# Altium footprint library HEV_PcbLib.PcbLib: 7 footprints
Each footprint in its own frame and in the unit in brackets; x right, y up, seen from the top. Pads: shape width x height; smd on the part's side, far side on the other; paste and mask are expansions set on the pad; w line width, h text height; cw(c..) or ccw(c..) is an arc to the next point about the centre after c.
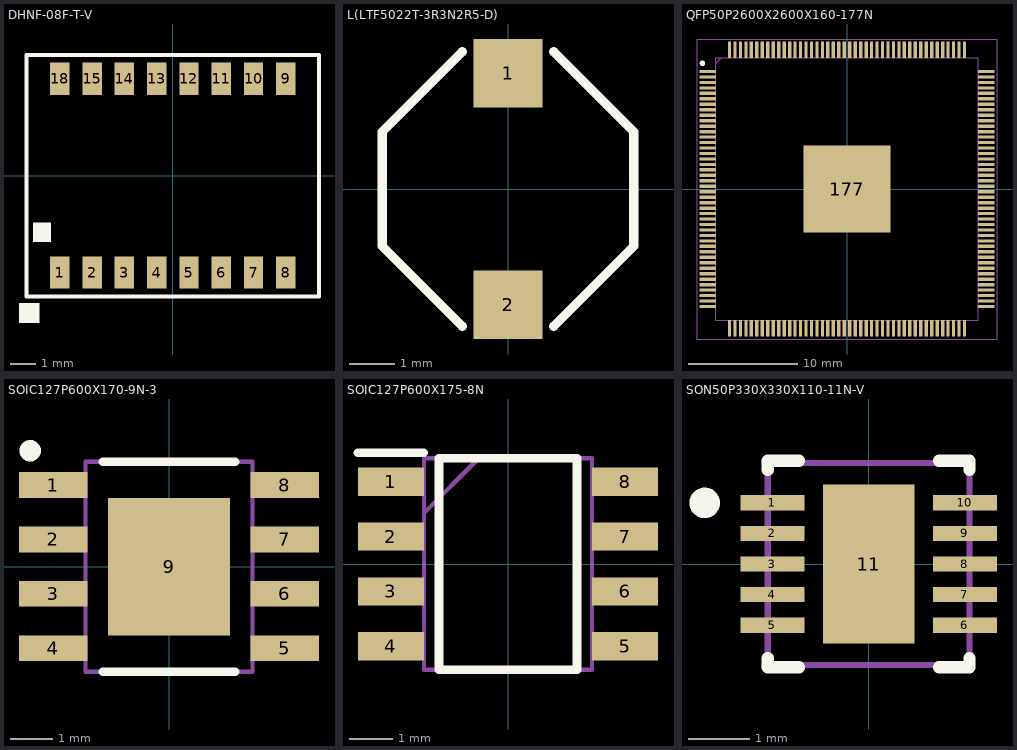
[diagram p0: the footprints below, top view; thin cyan lines are the x and y axes]

## DHNF-08F-T-V [mm]
pads (16):
  rect 0.76x1.27 smd: 1(-4.445,-3.81) 2(-3.175,-3.81) 3(-1.905,-3.81) 4(-0.635,-3.81) 5(0.635,-3.81) 6(1.905,-3.81) 7(3.175,-3.81) 8(4.445,-3.81) 9(4.445,3.81) 10(3.175,3.81) 11(1.905,3.81) 12(0.635,3.81) 13(-0.635,3.81) 14(-1.905,3.81) 15(-3.175,3.81) 18(-4.445,3.81)
Top Overlay:
  rectangle: -5.5,-2.6 -4.8,-1.85
  rectangle: -6.05,-5.8 -5.25,-5
  lines w0.152: -5.75,-4.75 -5.75,4.75 5.75,4.75 5.75,-4.75 -5.75,-4.75
3D body: height 1.6, standoff 0, extent -5.65,-3.75 5.65,3.75

## L(LTF5022T-3R3N2R5-D) [mm] "Inductor"
height 1.2
pads (2):
  rect 1.5x1.5 smd: 1(0,2.53) 2(0,-2.53)
Top Overlay:
  lines w0.2: -1,-3 -2.75,-1.25 -2.75,1.25 -1,3 ; 1,-3 2.75,-1.25 2.75,1.25 1,3
3D body "ltf5022-d.step": height 2.03, standoff -0.02, extent -2.5,-3 2.5,3

## PCBComponent_1 [mm]

## QFP50P2600X2600X160-177N [mm]
pads (177):
  rect 1.475x0.3 smd: 1(-12.738,10.75) 2(-12.738,10.25) 3(-12.738,9.75) 4(-12.738,9.25) 5(-12.738,8.75) 6(-12.738,8.25) 7(-12.738,7.75) 8(-12.738,7.25) 9(-12.738,6.75) 10(-12.738,6.25) 11(-12.738,5.75) 12(-12.738,5.25) 13(-12.738,4.75) 14(-12.738,4.25) 15(-12.738,3.75) 16(-12.738,3.25) 17(-12.738,2.75) 18(-12.738,2.25) 19(-12.738,1.75) 20(-12.738,1.25) 21(-12.738,0.75) 22(-12.738,0.25) 23(-12.738,-0.25) 24(-12.738,-0.75) 25(-12.738,-1.25) 26(-12.738,-1.75) 27(-12.738,-2.25) 28(-12.738,-2.75) 29(-12.738,-3.25) 30(-12.738,-3.75) 31(-12.738,-4.25) 32(-12.738,-4.75) 33(-12.738,-5.25) 34(-12.738,-5.75) 35(-12.738,-6.25) 36(-12.738,-6.75) 37(-12.738,-7.25) 38(-12.738,-7.75) 39(-12.738,-8.25) 40(-12.738,-8.75) 41(-12.738,-9.25) 42(-12.738,-9.75) 43(-12.738,-10.25) 44(-12.738,-10.75) 89(12.738,-10.75) 90(12.738,-10.25) 91(12.738,-9.75) 92(12.738,-9.25) 93(12.738,-8.75) 94(12.738,-8.25) 95(12.738,-7.75) 96(12.738,-7.25) 97(12.738,-6.75) 98(12.738,-6.25) 99(12.738,-5.75) 100(12.738,-5.25) 101(12.738,-4.75) 102(12.738,-4.25) 103(12.738,-3.75) 104(12.738,-3.25) 105(12.738,-2.75) 106(12.738,-2.25) 107(12.738,-1.75) 108(12.738,-1.25) 109(12.738,-0.75) 110(12.738,-0.25) 111(12.738,0.25) 112(12.738,0.75) 113(12.738,1.25) 114(12.738,1.75) 115(12.738,2.25) 116(12.738,2.75) 117(12.738,3.25) 118(12.738,3.75) 119(12.738,4.25) 120(12.738,4.75) 121(12.738,5.25) 122(12.738,5.75) 123(12.738,6.25) 124(12.738,6.75) 125(12.738,7.25) 126(12.738,7.75) 127(12.738,8.25) 128(12.738,8.75) 129(12.738,9.25) 130(12.738,9.75) 131(12.738,10.25) 132(12.738,10.75)
  rect 0.3x1.475 smd: 45(-10.75,-12.738) 46(-10.25,-12.738) 47(-9.75,-12.738) 48(-9.25,-12.738) 49(-8.75,-12.738) 50(-8.25,-12.738) 51(-7.75,-12.738) 52(-7.25,-12.738) 53(-6.75,-12.738) 54(-6.25,-12.738) 55(-5.75,-12.738) 56(-5.25,-12.738) 57(-4.75,-12.738) 58(-4.25,-12.738) 59(-3.75,-12.738) 60(-3.25,-12.738) 61(-2.75,-12.738) 62(-2.25,-12.738) 63(-1.75,-12.738) 64(-1.25,-12.738) 65(-0.75,-12.738) 66(-0.25,-12.738) 67(0.25,-12.738) 68(0.75,-12.738) 69(1.25,-12.738) 70(1.75,-12.738) 71(2.25,-12.738) 72(2.75,-12.738) 73(3.25,-12.738) 74(3.75,-12.738) 75(4.25,-12.738) 76(4.75,-12.738) 77(5.25,-12.738) 78(5.75,-12.738) 79(6.25,-12.738) 80(6.75,-12.738) 81(7.25,-12.738) 82(7.75,-12.738) 83(8.25,-12.738) 84(8.75,-12.738) 85(9.25,-12.738) 86(9.75,-12.738) 87(10.25,-12.738) 88(10.75,-12.738) 133(10.75,12.738) 134(10.25,12.738) 135(9.75,12.738) 136(9.25,12.738) 137(8.75,12.738) 138(8.25,12.738) 139(7.75,12.738) 140(7.25,12.738) 141(6.75,12.738) 142(6.25,12.738) 143(5.75,12.738) 144(5.25,12.738) 145(4.75,12.738) 146(4.25,12.738) 147(3.75,12.738) 148(3.25,12.738) 149(2.75,12.738) 150(2.25,12.738) 151(1.75,12.738) 152(1.25,12.738) 153(0.75,12.738) 154(0.25,12.738) 155(-0.25,12.738) 156(-0.75,12.738) 157(-1.25,12.738) 158(-1.75,12.738) 159(-2.25,12.738) 160(-2.75,12.738) 161(-3.25,12.738) 162(-3.75,12.738) 163(-4.25,12.738) 164(-4.75,12.738) 165(-5.25,12.738) 166(-5.75,12.738) 167(-6.25,12.738) 168(-6.75,12.738) 169(-7.25,12.738) 170(-7.75,12.738) 171(-8.25,12.738) 172(-8.75,12.738) 173(-9.25,12.738) 174(-9.75,12.738) 175(-10.25,12.738) 176(-10.75,12.738)
  rect 7.95x7.95 smd: 177(0,0)
Top Overlay:
  circle w0.25: c-13.225,11.5 r0.125
Mechanical 13:
  lines w0.1: -12,11.5 -11.5,12 ; -12,-12 -12,12 12,12 12,-12 -12,-12
Mechanical 15:
  lines w0.05: -13.725,-13.725 -13.725,13.725 13.725,13.725 13.725,-13.725 -13.725,-13.725
3D body "TC275TP64F200WDCKXUMA1.stp": height 1.6, standoff 0, extent -13,-13 13,13

## SOIC127P600X170-9N-3 [mm] "TLS205B0EJ V33"
height 1.7
pads (9):
  rect 1.6x0.6 smd paste+0 mask+0: 1(-2.7,1.905) 2(-2.7,0.635) 3(-2.7,-0.635) 4(-2.7,-1.905) 5(2.7,-1.905) 6(2.7,-0.635) 7(2.7,0.635) 8(2.7,1.905)
  rect 2.85x3.2 smd paste+0 mask+0: 9(0,0)
Top Overlay:
  circle w0.25: c-3.24,2.705 r0.125
  lines w0.2: -1.55,-2.45 1.55,-2.45 ; -1.55,2.45 1.55,2.45
Mechanical 13:
  lines w0.1: -1.95,-2.45 -1.95,2.45 1.95,2.45 1.95,-2.45 -1.95,-2.45
Mechanical 15:
  lines w0.1: -0.5,0 0.5,0 ; 0,-0.5 0,0.5
3D body "TLS115B0EJ.stp": height 1.71, standoff 0, extent -3,-2.45 3,2.45

## SOIC127P600X175-8N [mm]
pads (8):
  rect 1.528x0.65 smd: 1(-2.711,1.905) 2(-2.711,0.635) 3(-2.711,-0.635) 4(-2.711,-1.905) 5(2.711,-1.905) 6(2.711,-0.635) 7(2.711,0.635) 8(2.711,1.905)
Top Overlay:
  lines w0.2: -3.475,2.58 -1.948,2.58 ; -1.598,-2.452 -1.598,2.452 1.598,2.452 1.598,-2.452 -1.598,-2.452
Mechanical 13:
  lines w0.1: -1.948,1.182 -0.678,2.452 ; -1.948,-2.452 -1.948,2.452 1.948,2.452 1.948,-2.452 -1.948,-2.452
3D body "ISO6721RBQDRQ1.stp": height 1.75, standoff 0, extent -2.997,-2.452 2.997,2.452

## SON50P330X330X110-11N-V [mm] "SON,0.50mm pitch;10 pin,3.30mm W X 3.30mm L X 1.10mm H body (w/thermal tab)"
height 1.1
pads (11):
  rect 1.05x0.25 smd paste+0 mask+0: 1(-1.575,1) 2(-1.575,0.5) 3(-1.575,0) 4(-1.575,-0.5) 5(-1.575,-1) 6(1.575,-1) 7(1.575,-0.5) 8(1.575,0) 9(1.575,0.5) 10(1.575,1)
  rect 1.5x2.6 smd paste-0.75 mask+0: 11(0,0)
Top Overlay:
  circle w0.25: c-2.683,1 r0.125
  lines w0.2: -1.65,-1.54 -1.65,-1.69 -1.14,-1.69 ; -1.65,1.54 -1.65,1.69 -1.14,1.69 ; 1.15,-1.69 1.65,-1.69 1.65,-1.54 ; 1.15,1.69 1.65,1.69 1.65,1.54
Top Paste:
  region: -0.7,-0.13 -0.1,-0.13 -0.1,-1.18 -0.7,-1.18
  region: 0.1,1.17 0.7,1.17 0.7,0.12 0.1,0.12
  region: 0.1,-0.13 0.7,-0.13 0.7,-1.18 0.1,-1.18
  region: -0.7,1.17 -0.1,1.17 -0.1,0.12 -0.7,0.12
Mechanical 13:
  lines w0.1: -1.65,-1.65 1.65,-1.65 1.65,1.65 -1.65,1.65 -1.65,-1.65
Mechanical 15:
  lines w0.1: -0.5,0 0.5,0 ; 0,-0.5 0,0.5
3D body "TSON-10-2.stp": height 1.06, standoff 0, extent -1.65,-1.65 1.65,1.65